# EAGLE library part BORNE-6-350-DUAL (library JLB6_Connec)
Borne phoenixcontact 6 points a 3,50mm 186-1975
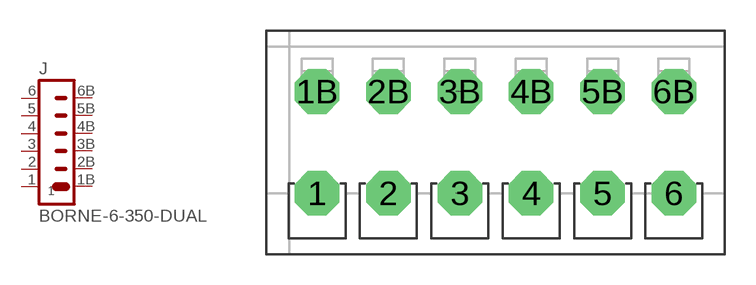
[diagram p84: symbol with the pads of BORNE-PHOENIX-6-350-2; footprint BORNE-PHOENIX-6-350-2]

Designator prefix J

## BORNE-6-350-DUAL  [BORNE-PHOENIX-6-350-2]
1  1  pas
1B  1B  pas
2  2  pas
2B  2B  pas
3  3  pas
3B  3B  pas
4  4  pas
4B  4B  pas
5  5  pas
5B  5B  pas
6  6  pas
6B  6B  pas

## Footprint BORNE-PHOENIX-6-350-2 (pad centres in mm)
Bornier Phoenixcontact 182-1975 6 points a 3.50mm
drill 1.1 pad 2.184 octagon: 1 -8.75,-2.5; 1B -8.75,2.5; 2 -5.25,-2.5; 2B -5.25,2.5; 3 -1.75,-2.5; 3B -1.75,2.5; 4 1.75,-2.5; 4B 1.75,2.5; 5 5.25,-2.5; 5B 5.25,2.5; 6 8.75,-2.5; 6B 8.75,2.5